# EAGLE library part µZ (library powerboard)
MicroZed board Tech H : hole version Tech TS : Theaded spacers version
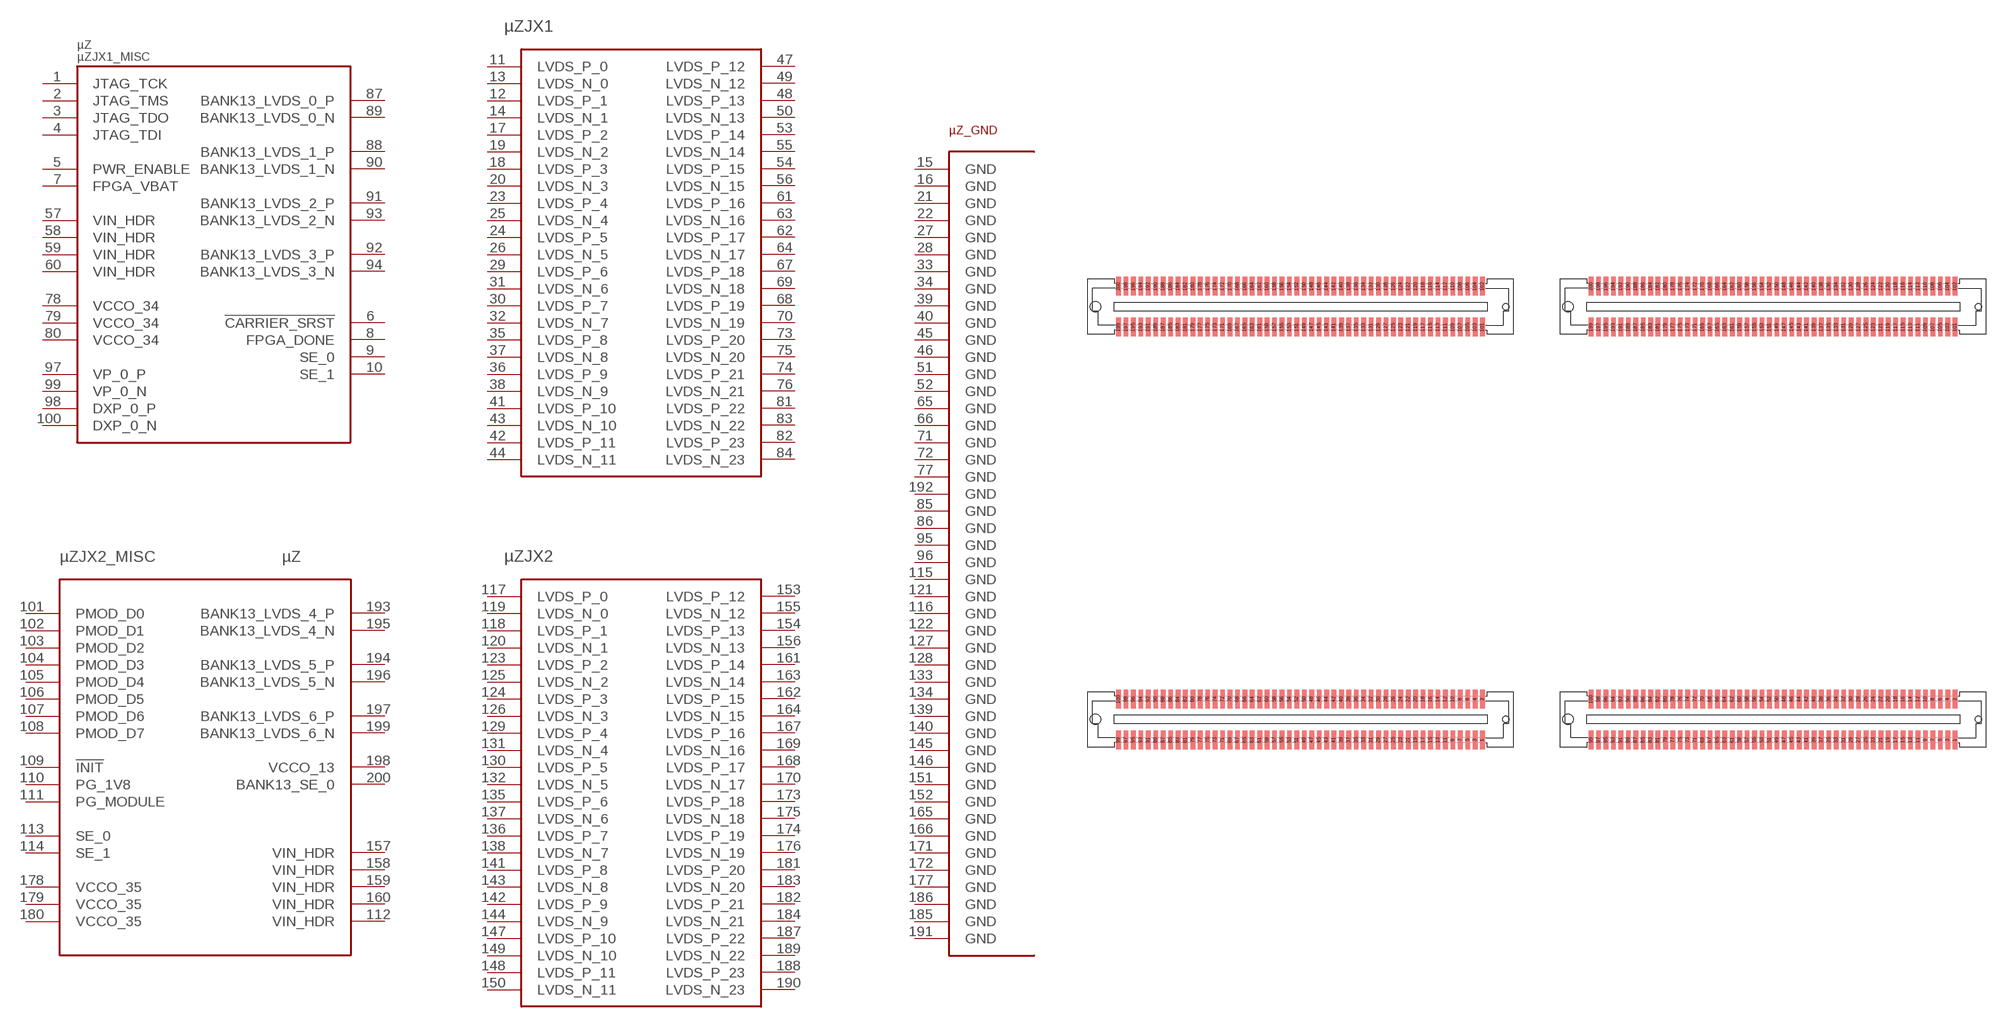
[diagram p0: symbol with the pads of µZ; footprints µZ, µZ_E]

Designator prefix µZ; gates GND=JX_PWR JX1=µZ_JX_LVDS JX1_MISC=JX1_MISC JX2=µZ_JX_LVDS JX2_MISC=JX2_MISC

## µZH  [µZ]
1  JX1_MISC:JTAG_TCK  in
2  JX1_MISC:JTAG_TMS  in
3  JX1_MISC:JTAG_TDO  out
4  JX1_MISC:JTAG_TDI  in
5  JX1_MISC:PWR_ENABLE  in
6  JX1_MISC:!CARRIER_SRST  out
7  JX1_MISC:FPGA_VBAT  pwr
8  JX1_MISC:FPGA_DONE  out
9  JX1_MISC:SE_0
10  JX1_MISC:SE_1
11  JX1:LVDS_P_0
12  JX1:LVDS_P_1
13  JX1:LVDS_N_0
14  JX1:LVDS_N_1
15  GND:GND  pwr
16  GND:GND  pwr
17  JX1:LVDS_P_2
18  JX1:LVDS_P_3
19  JX1:LVDS_N_2
20  JX1:LVDS_N_3
21  GND:GND  pwr
22  GND:GND  pwr
23  JX1:LVDS_P_4
24  JX1:LVDS_P_5
25  JX1:LVDS_N_4
26  JX1:LVDS_N_5
27  GND:GND  pwr
28  GND:GND  pwr
29  JX1:LVDS_P_6
30  JX1:LVDS_P_7
31  JX1:LVDS_N_6
32  JX1:LVDS_N_7
33  GND:GND  pwr
34  GND:GND  pwr
35  JX1:LVDS_P_8
36  JX1:LVDS_P_9
37  JX1:LVDS_N_8
38  JX1:LVDS_N_9
39  GND:GND  pwr
40  GND:GND  pwr
41  JX1:LVDS_P_10
42  JX1:LVDS_P_11
43  JX1:LVDS_N_10
44  JX1:LVDS_N_11
45  GND:GND  pwr
46  GND:GND  pwr
47  JX1:LVDS_P_12
48  JX1:LVDS_P_13
49  JX1:LVDS_N_12
50  JX1:LVDS_N_13
51  GND:GND  pwr
52  GND:GND  pwr
53  JX1:LVDS_P_14
54  JX1:LVDS_P_15
55  JX1:LVDS_N_14
56  JX1:LVDS_N_15
57  JX1_MISC:VIN_HDR  pwr
58  JX1_MISC:VIN_HDR  pwr
59  JX1_MISC:VIN_HDR  pwr
60  JX1_MISC:VIN_HDR  pwr
61  JX1:LVDS_P_16
62  JX1:LVDS_P_17
63  JX1:LVDS_N_16
64  JX1:LVDS_N_17
65  GND:GND  pwr
66  GND:GND  pwr
67  JX1:LVDS_P_18
68  JX1:LVDS_P_19
69  JX1:LVDS_N_18
70  JX1:LVDS_N_19
71  GND:GND  pwr
72  GND:GND  pwr
73  JX1:LVDS_P_20
74  JX1:LVDS_P_21
75  JX1:LVDS_N_20
76  JX1:LVDS_N_21
77  GND:GND  pwr
78  JX1_MISC:VCCO_34  pwr
79  JX1_MISC:VCCO_34  pwr
80  JX1_MISC:VCCO_34  pwr
81  JX1:LVDS_P_22
82  JX1:LVDS_P_23
83  JX1:LVDS_N_22
84  JX1:LVDS_N_23
85  GND:GND  pwr
86  GND:GND  pwr
87  JX1_MISC:BANK13_LVDS_0_P  out
88  JX1_MISC:BANK13_LVDS_1_P  out
89  JX1_MISC:BANK13_LVDS_0_N  out
90  JX1_MISC:BANK13_LVDS_1_N  out
91  JX1_MISC:BANK13_LVDS_2_P  out
92  JX1_MISC:BANK13_LVDS_3_P  out
93  JX1_MISC:BANK13_LVDS_2_N  out
94  JX1_MISC:BANK13_LVDS_3_N  out
95  GND:GND  pwr
96  GND:GND  pwr
97  JX1_MISC:VP_0_P  out
98  JX1_MISC:DXP_0_P  out
99  JX1_MISC:VP_0_N  out
100  JX1_MISC:DXP_0_N  out
101  JX2_MISC:PMOD_D0
102  JX2_MISC:PMOD_D1
103  JX2_MISC:PMOD_D2
104  JX2_MISC:PMOD_D3
105  JX2_MISC:PMOD_D4
106  JX2_MISC:PMOD_D5
107  JX2_MISC:PMOD_D6
108  JX2_MISC:PMOD_D7
109  JX2_MISC:!INIT  in
110  JX2_MISC:PG_1V8  in
111  JX2_MISC:PG_MODULE  out
112  JX2_MISC:VIN_HDR  pwr
113  JX2_MISC:SE_0
114  JX2_MISC:SE_1
115  GND:GND  pwr
116  GND:GND  pwr
117  JX2:LVDS_P_0
118  JX2:LVDS_P_1
119  JX2:LVDS_N_0
120  JX2:LVDS_N_1
121  GND:GND  pwr
122  GND:GND  pwr
123  JX2:LVDS_P_2
124  JX2:LVDS_P_3
125  JX2:LVDS_N_2
126  JX2:LVDS_N_3
127  GND:GND  pwr
128  GND:GND  pwr
129  JX2:LVDS_P_4
130  JX2:LVDS_P_5
131  JX2:LVDS_N_4
132  JX2:LVDS_N_5
133  GND:GND  pwr
134  GND:GND  pwr
135  JX2:LVDS_P_6
136  JX2:LVDS_P_7
137  JX2:LVDS_N_6
138  JX2:LVDS_N_7
139  GND:GND  pwr
140  GND:GND  pwr
141  JX2:LVDS_P_8
142  JX2:LVDS_P_9
143  JX2:LVDS_N_8
144  JX2:LVDS_N_9
145  GND:GND  pwr
146  GND:GND  pwr
147  JX2:LVDS_P_10
148  JX2:LVDS_P_11
149  JX2:LVDS_N_10
150  JX2:LVDS_N_11
151  GND:GND  pwr
152  GND:GND  pwr
153  JX2:LVDS_P_12
154  JX2:LVDS_P_13
155  JX2:LVDS_N_12
156  JX2:LVDS_N_13
157  JX2_MISC:VIN_HDR  pwr
158  JX2_MISC:VIN_HDR  pwr
159  JX2_MISC:VIN_HDR  pwr
160  JX2_MISC:VIN_HDR  pwr
161  JX2:LVDS_P_14
162  JX2:LVDS_P_15
163  JX2:LVDS_N_14
164  JX2:LVDS_N_15
165  GND:GND  pwr
166  GND:GND  pwr
167  JX2:LVDS_P_16
168  JX2:LVDS_P_17
169  JX2:LVDS_N_16
170  JX2:LVDS_N_17
171  GND:GND  pwr
172  GND:GND  pwr
173  JX2:LVDS_P_18
174  JX2:LVDS_P_19
175  JX2:LVDS_N_18
176  JX2:LVDS_N_19
177  GND:GND  pwr
178  JX2_MISC:VCCO_35  pwr
179  JX2_MISC:VCCO_35  pwr
180  JX2_MISC:VCCO_35  pwr
181  JX2:LVDS_P_20
182  JX2:LVDS_P_21
183  JX2:LVDS_N_20
184  JX2:LVDS_N_21
185  GND:GND  pwr
186  GND:GND  pwr
187  JX2:LVDS_P_22
188  JX2:LVDS_P_23
189  JX2:LVDS_N_22
190  JX2:LVDS_N_23
191  GND:GND  pwr
192  GND:GND  pwr
193  JX2_MISC:BANK13_LVDS_4_P
194  JX2_MISC:BANK13_LVDS_5_P
195  JX2_MISC:BANK13_LVDS_4_N
196  JX2_MISC:BANK13_LVDS_5_N
197  JX2_MISC:BANK13_LVDS_6_P
198  JX2_MISC:VCCO_13  pwr
199  JX2_MISC:BANK13_LVDS_6_N
200  JX2_MISC:BANK13_SE_0

## µZTS  [µZ_E]
Pads as for µZ

## Footprint µZ (pad centres in mm)
smd 0.5 x 2: 1 70.351,4.149; 2 70.351,8.549; 3 69.551,4.149; 4 69.551,8.549; 5 68.751,4.149; 6 68.751,8.549; 7 67.951,4.149; 8 67.951,8.549; 9 67.151,4.149; 10 67.151,8.549; 11 66.351,4.149; 12 66.351,8.549; 13 65.551,4.149; 14 65.551,8.549; 15 64.751,4.149; 16 64.751,8.549; 17 63.951,4.149; 18 63.951,8.549; 19 63.151,4.149; 20 63.151,8.549; 21 62.351,4.149; 22 62.351,8.549; 23 61.551,4.149; 24 61.551,8.549; 25 60.751,4.149; 26 60.751,8.549; 27 59.951,4.149; 28 59.951,8.549; 29 59.151,4.149; 30 59.151,8.549; 31 58.351,4.149; 32 58.351,8.549; 33 57.551,4.149; 34 57.551,8.549; 35 56.751,4.149; 36 56.751,8.549; 37 55.951,4.149; 38 55.951,8.549; 39 55.151,4.149; 40 55.151,8.549; 41 54.351,4.149; 42 54.351,8.549; 43 53.551,4.149; 44 53.551,8.549; 45 52.751,4.149; 46 52.751,8.549; 47 51.951,4.149; 48 51.951,8.549; 49 51.151,4.149; 50 51.151,8.549; 51 50.351,4.149; 52 50.351,8.549; 53 49.551,4.149; 54 49.551,8.549; 55 48.751,4.149; 56 48.751,8.549; 57 47.951,4.149; 58 47.951,8.549; 59 47.151,4.149; 60 47.151,8.549; 61 46.351,4.149; 62 46.351,8.549; 63 45.551,4.149; 64 45.551,8.549; 65 44.751,4.149; 66 44.751,8.549; 67 43.951,4.149; 68 43.951,8.549; 69 43.151,4.149; 70 43.151,8.549; 71 42.351,4.149; 72 42.351,8.549; 73 41.551,4.149; 74 41.551,8.549; 75 40.751,4.149; 76 40.751,8.549; 77 39.951,4.149; 78 39.951,8.549; 79 39.151,4.149; 80 39.151,8.549; 81 38.351,4.149; 82 38.351,8.549; 83 37.551,4.149; 84 37.551,8.549; 85 36.751,4.149; 86 36.751,8.549; 87 35.951,4.149; 88 35.951,8.549; 89 35.151,4.149; 90 35.151,8.549; 91 34.351,4.149; 92 34.351,8.549; 93 33.551,4.149; 94 33.551,8.549; 95 32.751,4.149; 96 32.751,8.549; 97 31.951,4.149; 98 31.951,8.549; 99 31.151,4.149; 100 31.151,8.549; 101 70.351,48.601; 102 70.351,53.001; 103 69.551,48.601; 104 69.551,53.001; 105 68.751,48.601; 106 68.751,53.001; 107 67.951,48.601; 108 67.951,53.001; 109 67.151,48.601; 110 67.151,53.001; 111 66.351,48.601; 112 66.351,53.001; 113 65.551,48.601; 114 65.551,53.001; 115 64.751,48.601; 116 64.751,53.001; 117 63.951,48.601; 118 63.951,53.001; 119 63.151,48.601; 120 63.151,53.001; 121 62.351,48.601; 122 62.351,53.001; 123 61.551,48.601; 124 61.551,53.001; 125 60.751,48.601; 126 60.751,53.001; 127 59.951,48.601; 128 59.951,53.001; 129 59.151,48.601; 130 59.151,53.001; 131 58.351,48.601; 132 58.351,53.001; 133 57.551,48.601; 134 57.551,53.001; 135 56.751,48.601; 136 56.751,53.001; 137 55.951,48.601; 138 55.951,53.001; 139 55.151,48.601; 140 55.151,53.001; 141 54.351,48.601; 142 54.351,53.001; 143 53.551,48.601; 144 53.551,53.001; 145 52.751,48.601; 146 52.751,53.001; 147 51.951,48.601; 148 51.951,53.001; 149 51.151,48.601; 150 51.151,53.001; 151 50.351,48.601; 152 50.351,53.001; 153 49.551,48.601; 154 49.551,53.001; 155 48.751,48.601; 156 48.751,53.001; 157 47.951,48.601; 158 47.951,53.001; 159 47.151,48.601; 160 47.151,53.001; 161 46.351,48.601; 162 46.351,53.001; 163 45.551,48.601; 164 45.551,53.001; 165 44.751,48.601; 166 44.751,53.001; 167 43.951,48.601; 168 43.951,53.001; 169 43.151,48.601; 170 43.151,53.001; 171 42.351,48.601; 172 42.351,53.001; 173 41.551,48.601; 174 41.551,53.001; 175 40.751,48.601; 176 40.751,53.001; 177 39.951,48.601; 178 39.951,53.001; 179 39.151,48.601; 180 39.151,53.001; 181 38.351,48.601; 182 38.351,53.001; 183 37.551,48.601; 184 37.551,53.001; 185 36.751,48.601; 186 36.751,53.001; 187 35.951,48.601; 188 35.951,53.001; 189 35.151,48.601; 190 35.151,53.001; 191 34.351,48.601; 192 34.351,53.001; 193 33.551,48.601; 194 33.551,53.001; 195 32.751,48.601; 196 32.751,53.001; 197 31.951,48.601; 198 31.951,53.001; 199 31.151,48.601; 200 31.151,53.001
hole 1.1 at 28.651,6.349
hole 0.7 at 72.851,6.349
hole 1.1 at 28.651,50.801
hole 0.7 at 72.851,50.801

## Footprint µZ_E (pad centres in mm)
smd 0.5 x 2: 1 19.551,-25.061; 2 19.551,-20.661; 3 18.751,-25.061; 4 18.751,-20.661; 5 17.951,-25.061; 6 17.951,-20.661; 7 17.151,-25.061; 8 17.151,-20.661; 9 16.351,-25.061; 10 16.351,-20.661; 11 15.551,-25.061; 12 15.551,-20.661; 13 14.751,-25.061; 14 14.751,-20.661; 15 13.951,-25.061; 16 13.951,-20.661; 17 13.151,-25.061; 18 13.151,-20.661; 19 12.351,-25.061; 20 12.351,-20.661; 21 11.551,-25.061; 22 11.551,-20.661; 23 10.751,-25.061; 24 10.751,-20.661; 25 9.951,-25.061; 26 9.951,-20.661; 27 9.151,-25.061; 28 9.151,-20.661; 29 8.351,-25.061; 30 8.351,-20.661; 31 7.551,-25.061; 32 7.551,-20.661; 33 6.751,-25.061; 34 6.751,-20.661; 35 5.951,-25.061; 36 5.951,-20.661; 37 5.151,-25.061; 38 5.151,-20.661; 39 4.351,-25.061; 40 4.351,-20.661; 41 3.551,-25.061; 42 3.551,-20.661; 43 2.751,-25.061; 44 2.751,-20.661; 45 1.951,-25.061; 46 1.951,-20.661; 47 1.151,-25.061; 48 1.151,-20.661; 49 0.351,-25.061; 50 0.351,-20.661; 51 -0.449,-25.061; 52 -0.449,-20.661; 53 -1.249,-25.061; 54 -1.249,-20.661; 55 -2.049,-25.061; 56 -2.049,-20.661; 57 -2.849,-25.061; 58 -2.849,-20.661; 59 -3.649,-25.061; 60 -3.649,-20.661; 61 -4.449,-25.061; 62 -4.449,-20.661; 63 -5.249,-25.061; 64 -5.249,-20.661; 65 -6.049,-25.061; 66 -6.049,-20.661; 67 -6.849,-25.061; 68 -6.849,-20.661; 69 -7.649,-25.061; 70 -7.649,-20.661; 71 -8.449,-25.061; 72 -8.449,-20.661; 73 -9.249,-25.061; 74 -9.249,-20.661; 75 -10.049,-25.061; 76 -10.049,-20.661; 77 -10.849,-25.061; 78 -10.849,-20.661; 79 -11.649,-25.061; 80 -11.649,-20.661; 81 -12.449,-25.061; 82 -12.449,-20.661; 83 -13.249,-25.061; 84 -13.249,-20.661; 85 -14.049,-25.061; 86 -14.049,-20.661; 87 -14.849,-25.061; 88 -14.849,-20.661; 89 -15.649,-25.061; 90 -15.649,-20.661; 91 -16.449,-25.061; 92 -16.449,-20.661; 93 -17.249,-25.061; 94 -17.249,-20.661; 95 -18.049,-25.061; 96 -18.049,-20.661; 97 -18.849,-25.061; 98 -18.849,-20.661; 99 -19.649,-25.061; 100 -19.649,-20.661; 101 19.551,19.391; 102 19.551,23.791; 103 18.751,19.391; 104 18.751,23.791; 105 17.951,19.391; 106 17.951,23.791; 107 17.151,19.391; 108 17.151,23.791; 109 16.351,19.391; 110 16.351,23.791; 111 15.551,19.391; 112 15.551,23.791; 113 14.751,19.391; 114 14.751,23.791; 115 13.951,19.391; 116 13.951,23.791; 117 13.151,19.391; 118 13.151,23.791; 119 12.351,19.391; 120 12.351,23.791; 121 11.551,19.391; 122 11.551,23.791; 123 10.751,19.391; 124 10.751,23.791; 125 9.951,19.391; 126 9.951,23.791; 127 9.151,19.391; 128 9.151,23.791; 129 8.351,19.391; 130 8.351,23.791; 131 7.551,19.391; 132 7.551,23.791; 133 6.751,19.391; 134 6.751,23.791; 135 5.951,19.391; 136 5.951,23.791; 137 5.151,19.391; 138 5.151,23.791; 139 4.351,19.391; 140 4.351,23.791; 141 3.551,19.391; 142 3.551,23.791; 143 2.751,19.391; 144 2.751,23.791; 145 1.951,19.391; 146 1.951,23.791; 147 1.151,19.391; 148 1.151,23.791; 149 0.351,19.391; 150 0.351,23.791; 151 -0.449,19.391; 152 -0.449,23.791; 153 -1.249,19.391; 154 -1.249,23.791; 155 -2.049,19.391; 156 -2.049,23.791; 157 -2.849,19.391; 158 -2.849,23.791; 159 -3.649,19.391; 160 -3.649,23.791; 161 -4.449,19.391; 162 -4.449,23.791; 163 -5.249,19.391; 164 -5.249,23.791; 165 -6.049,19.391; 166 -6.049,23.791; 167 -6.849,19.391; 168 -6.849,23.791; 169 -7.649,19.391; 170 -7.649,23.791; 171 -8.449,19.391; 172 -8.449,23.791; 173 -9.249,19.391; 174 -9.249,23.791; 175 -10.049,19.391; 176 -10.049,23.791; 177 -10.849,19.391; 178 -10.849,23.791; 179 -11.649,19.391; 180 -11.649,23.791; 181 -12.449,19.391; 182 -12.449,23.791; 183 -13.249,19.391; 184 -13.249,23.791; 185 -14.049,19.391; 186 -14.049,23.791; 187 -14.849,19.391; 188 -14.849,23.791; 189 -15.649,19.391; 190 -15.649,23.791; 191 -16.449,19.391; 192 -16.449,23.791; 193 -17.249,19.391; 194 -17.249,23.791; 195 -18.049,19.391; 196 -18.049,23.791; 197 -18.849,19.391; 198 -18.849,23.791; 199 -19.649,19.391; 200 -19.649,23.791
hole 1.1 at -22.149,-22.861
hole 0.7 at 22.051,-22.861
hole 1.1 at -22.149,21.591
hole 0.7 at 22.051,21.591